# EAGLE library part 555X-12 (library con-molex-2)
Mini FIT connector 12 way
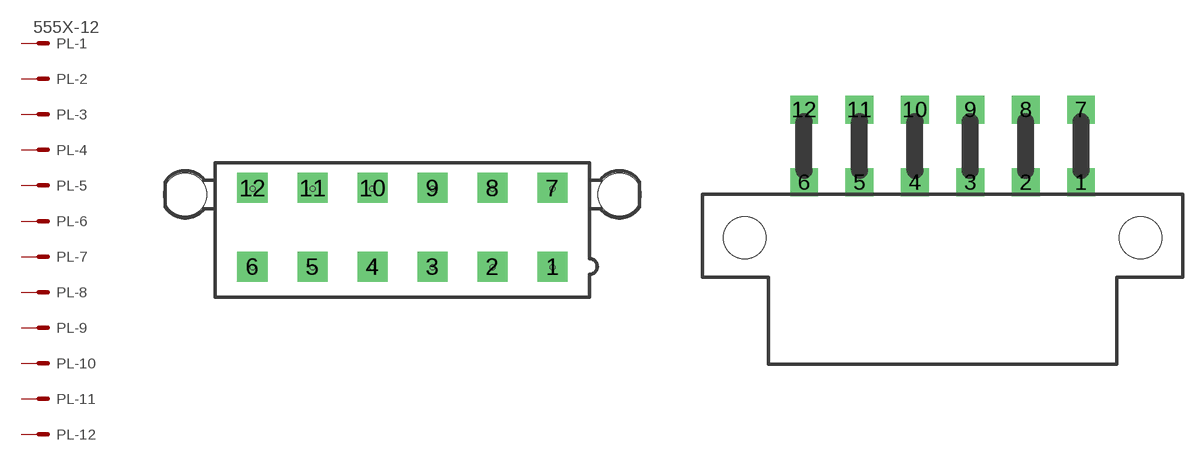
[diagram p3: symbol with the pads of 5566-12; footprints 5566-12, 5569-12]

Designator prefix PL; gates -1=MV -2=M -3=M -4=M -5=M -6=M -7=M -8=M -9=M -10=M -11=M -12=M

## 555X-12V  [5566-12]
1  -1:S  pas
2  -2:S  pas
3  -3:S  pas
4  -4:S  pas
5  -5:S  pas
6  -6:S  pas
7  -7:S  pas
8  -8:S  pas
9  -9:S  pas
10  -10:S  pas
11  -11:S  pas
12  -12:S  pas

## 555X-12H  [5569-12]
Pads as for 5566-12

## Footprint 5566-12 (pad centres in mm)
Mini FIT connector 12 pol
drill 1.4 square: 1 10.5,-2.75; 2 6.3,-2.75; 3 2.1,-2.75; 4 -2.1,-2.75; 5 -6.3,-2.75; 6 -10.5,-2.75; 7 10.5,2.75; 8 6.3,2.75; 9 2.1,2.75; 10 -2.1,2.75; 11 -6.3,2.75; 12 -10.5,2.75
hole 3 at 15.2,2.29
hole 3 at -15.2,2.29
hole 0.35 at -10.5,2.7
hole 0.35 at -2.1,2.7
hole 0.35 at -6.3,2.7
hole 0.35 at 2.1,2.7
hole 0.35 at 6.3,2.7
hole 0.35 at 10.5,2.7
hole 0.35 at 10.5,-2.8
hole 0.35 at 6.3,-2.8
hole 0.35 at 2.1,-2.8
hole 0.35 at -2.1,-2.8
hole 0.35 at -6.3,-2.8
hole 0.35 at -10.5,-2.8

## Footprint 5569-12 (pad centres in mm)
Mini FIT connector 12 R/A
drill 1.4 square: 1 10.5,0; 2 6.3,0; 3 2.1,0; 4 -2.1,0; 5 -6.3,0; 6 -10.5,0; 7 10.5,5.5; 8 6.3,5.5; 9 2.1,5.5; 10 -2.1,5.5; 11 -6.3,5.5; 12 -10.5,5.5
hole 3.2 at 15,-4.2
hole 3.2 at -15,-4.2